# Altium footprint library SparkFun-Connectors.PCBLIB: 305 footprints (part 19 of 20)
Each footprint in its own frame and in the unit in brackets; x right, y up, seen from the top. Pads: shape width x height; smd on the part's side, far side on the other; paste and mask are expansions set on the pad; w line width, h text height; cw(c..) or ccw(c..) is an arc to the next point about the centre after c.
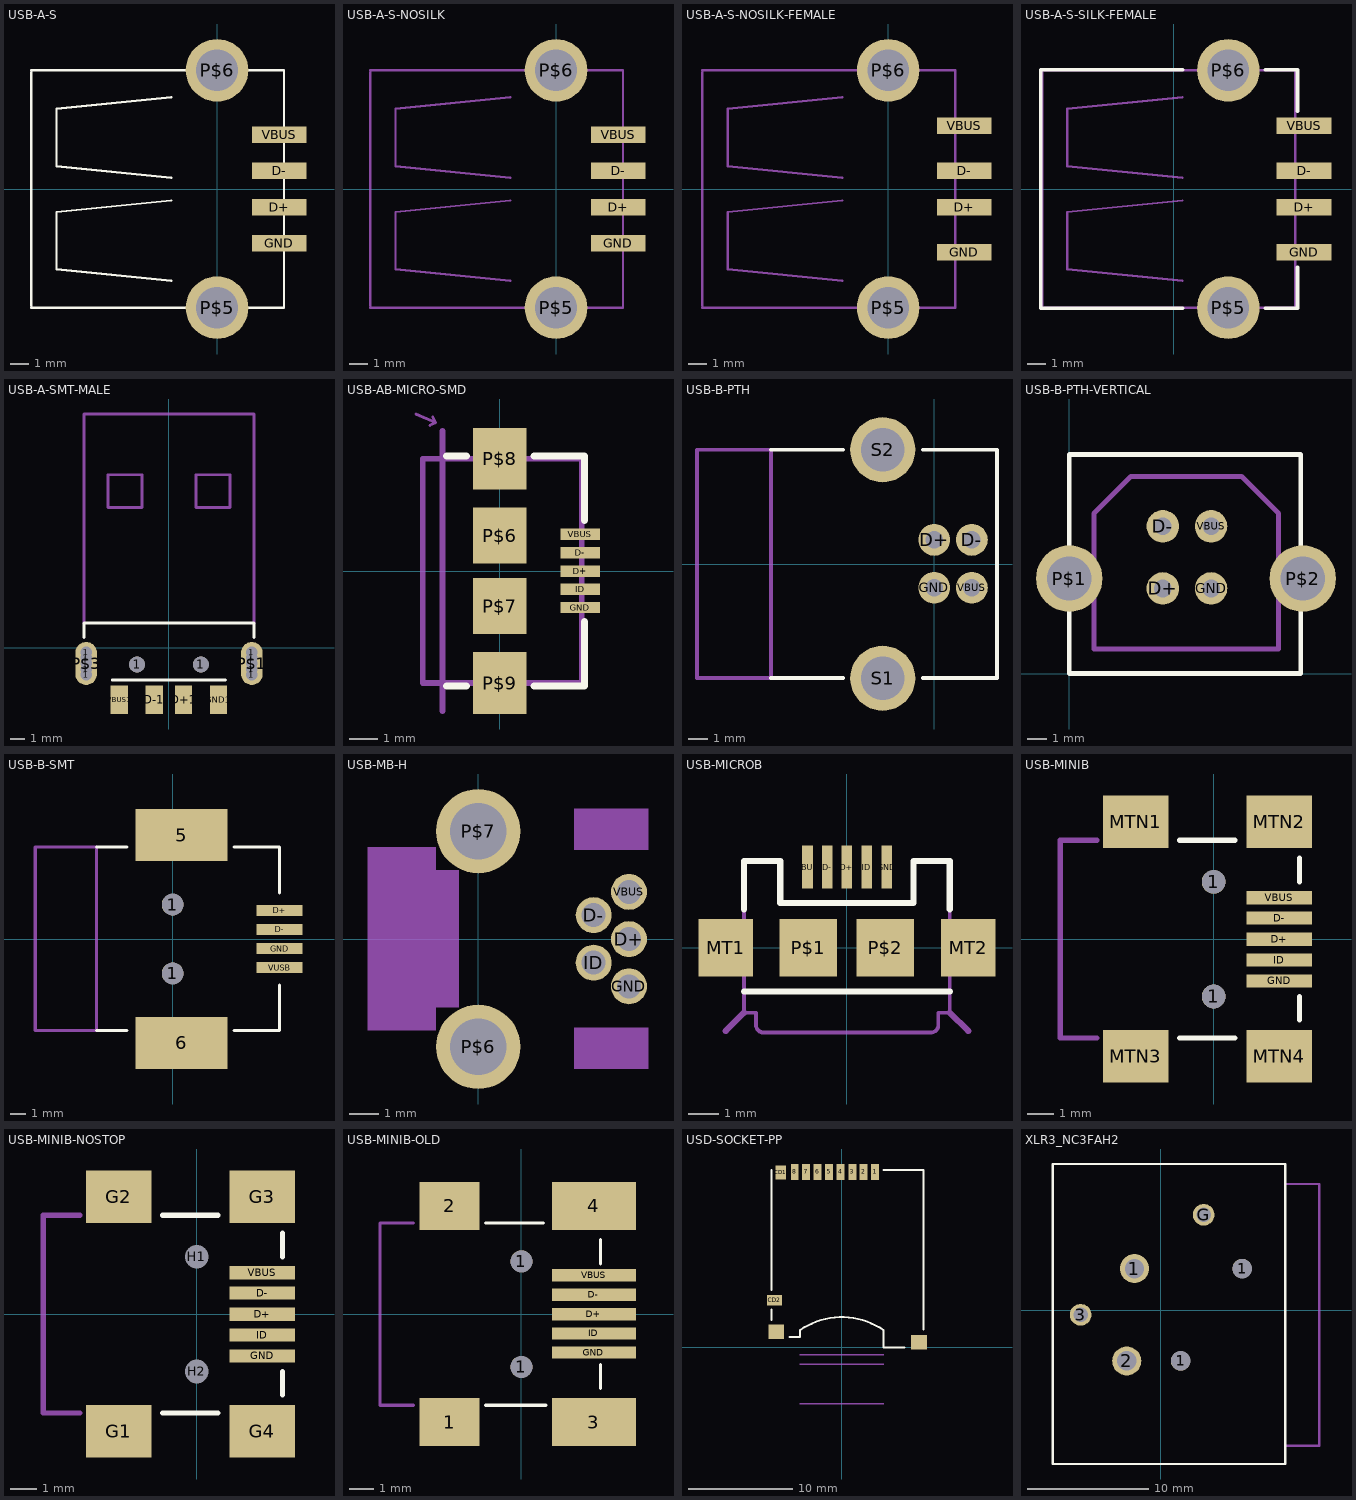
[diagram p18: the footprints below, top view; thin cyan lines are the x and y axes]

## USB-A-S [mil]
pads (6):
  rect 119x36 smd: D+(136,-39.37) D-(136,40) GND(136,-118.11) VBUS(136,119)
  round 136.5 hole 91: P$5(0,-258.5) P$6(0,259)
Top Overlay:
  lines w5: -405,-258.5 146,-258.5 ; -405,-255 -405,255 ; -405,259 146,259 ; -100,-200 -350,-175 -350,-50 -100,-25 ; -100,25 -350,50 -350,175 -100,200 ; 146,-256 146,256

## USB-A-S-NOSILK [mil]
pads (6):
  rect 119x36 smd: D+(136,-39.37) D-(136,40) GND(136,-118.11) VBUS(136,119)
  round 136.5 hole 91: P$5(0,-258.5) P$6(0,259)
Mechanical 16:
  lines w5: -405,-258.5 146,-258.5 ; -405,-255 -405,255 ; -405,259 146,259 ; -100,-200 -350,-175 -350,-50 -100,-25 ; -100,25 -350,50 -350,175 -100,200 ; 146,-256 146,256

## USB-A-S-NOSILK-FEMALE [mil]
pads (6):
  rect 119x36 smd: D+(166,-39.37) D-(166,40) GND(166,-137.8) VBUS(166,138)
  round 136.5 hole 91: P$5(0,-258.5) P$6(0,259)
Mechanical 16:
  lines w5: -405,-258.5 146,-258.5 ; -405,-255 -405,255 ; -405,259 146,259 ; -100,-200 -350,-175 -350,-50 -100,-25 ; -100,25 -350,50 -350,175 -100,200 ; 146,-256 146,256

## USB-A-S-SILK-FEMALE [mil]
pads (6):
  rect 119x36 smd: D+(284,-39.37) D-(284,40) GND(284,-137.8) VBUS(284,138)
  round 136.5 hole 91: P$5(119,-258.5) P$6(119,259)
Top Overlay:
  lines w8: 20,-260 -290,-260 -290,260 20,260 ; 200,-260 270,-260 270,-170 ; 200,260 270,260 270,170
Mechanical 16:
  lines w5: -286.89,-258.5 264,-258.5 ; -286.89,-255 -286.89,255 ; -286.89,259 264,259 ; 19,-200 -231.89,-175 -231.89,-50 19,-25 ; 19,25 -231.89,50 -231.89,175 19,200 ; 265,-256 265,256

## USB-A-SMT-MALE [mil]
pads (16):
  round 32 hole 32: 1(-230.31,-74.8) 1(-230.31,-59.06) 1(-230.31,-27.56) 1(-230.31,-11.81) 1(231,-74.8) 1(231,-59.06) 1(231,-27.56) 1(231,-11.81)
  round 44 hole 44: 1(-88.58,-46.06) 1(89,-46.06)
  rect 48x79 smd: D+1(41,-144.49) D-1(-40.43,-144.49) GND1(138,-144.49) VBUS1(-137.8,-144.49)
  oval 60x120 hole 32: P$1(231,-43.31) P$3(-230.31,-43.31)
Top Overlay:
  lines w8: -236.22,29 -236.22,69 237,69 237,29 ; -157.48,-89.37 158,-89.37
Mechanical 16:
  lines w8: -236.22,69 -236.22,651 237,651 237,69 ; -169.29,391 -169.29,482 -74.8,482 -74.8,391 -169.29,391 ; 75,391 75,482 170,482 170,391 75,391
  text "PCB Edge" at -173.23,104 h77.5

## USB-AB-MICRO-SMD [mil]
pads (9):
  rect 56x16 smd: D+(113,0) D-(113,26) GND(113,-51.18) ID(113,-25.59) VBUS(113,52)
  rect 75x79 smd: P$6(0,50) P$7(0,-49.21)
  rect 75x87 smd: P$8(0,158) P$9(0,-157.48)
Top Overlay:
  lines w10: -74.8,-161.42 -47.24,-161.42 ; -74.8,162 -47.24,162 ; 48,-161.42 119,-161.42 119,-70.87 ; 48,162 119,162 119,71
Mechanical 16:
  lines w4: -118.11,221 -90.55,209 ; -98.43,205 -90.55,209 ; -94.49,217 -90.55,209
  lines w8: -108.27,-157.48 -108.27,158 ; -106.3,-157.48 115,-157.48 115,158 24,158 ; -106.3,158 -23.62,158 ; -80.71,-196.85 -80.71,197 ; -23.62,-157.48 -23.62,-181.1 24,-181.1 24,-157.48 ; -23.62,158 24,158 ; -23.62,158 -23.62,182 24,182 24,158
  text "PCB Front" at -204.72,217 h18.6

## USB-B-PTH [mil]
pads (6):
  round 66 hole 36: D+(0,50) D-(78,50) GND(0,-49.21) VBUS(78,-49.21)
  round 135 hole 90: S1(-107,-237) S2(-107,237)
Top Overlay:
  lines w8: -338.58,-236.22 -188.98,-236.22 ; -338.58,237 -188.98,237 ; -23.62,-236.22 130,-236.22 130,237 -23.62,237
Mechanical 16:
  lines w8: -492.13,-236.22 -338.58,-236.22 -338.58,237 -492.13,237 -492.13,-236.22

## USB-B-PTH-VERTICAL [mil]
pads (6):
  round 66 hole 36: D+(190,173) D-(190,299) GND(288,173) VBUS(288,299)
  round 135 hole 90: P$1(0,193) P$2(474,193)
Top Overlay:
  lines w10: 0,0 470,0 470,445 0,445 0,0
Mechanical 16:
  lines w10: 50,50 425,50 425,325 350,400 125,400 50,325 50,50

## USB-B-SMT [mil]
pads (8):
  round 56 hole 56: 1(0,-88.58) 1(0,89)
  rect 238x134 smd: 5(23,268) 6(23,-267.72)
  rect 119x28 smd: D+(276,74) D-(276,25) GND(276,-24.61) VUSB(276,-73.82)
Top Overlay:
  lines w8: -196.85,-236.22 -118.11,-236.22 ; -196.85,237 -118.11,237 ; 158,-236.22 276,-236.22 276,-118.11 ; 158,237 276,237 276,119
Mechanical 16:
  lines w8: -354.33,-236.22 -354.33,237 -196.85,237 -196.85,-236.22 -354.33,-236.22 ; -39.37,-287.4 -39.37,-236.22 95,-236.22 95,-287.4 87,-295.28 75,-295.28 56,-275.59 0,-275.59 -19.68,-295.28 -31.5,-295.28 -39.37,-287.4 ; -39.37,237 95,237 95,288 87,296 75,296 56,276 0,276 -19.68,296 -31.5,296 -39.37,288 -39.37,237

## USB-MB-H [mil]
pads (7):
  round 48 hole 32: D+(201,0) D-(154,32) GND(201,-62.99) ID(154,-31.5) VBUS(201,63)
  round 112.5 hole 75: P$6(0,-143.7) P$7(0,144)
Bottom Overlay:
  lines w5: -127.95,-49.21 69,-29.53 69,30 -127.95,50 ; 30,60 -127.95,79 -127.95,119 30,138 ; 50,-137.8 -127.95,-118.11 -127.95,-78.74 50,-59.06 ; -147.64,-153.54 -147.64,154 207,154 207,-153.54 -147.64,-153.54
Mechanical 10:
  rectangle: 128,119 227,174
  rectangle: 128,-173.23 227,-118.11
  rectangle: -147.64,-122.05 -56.1,123
  rectangle: -56.1,-91.54 -25.59,92

## USB-MICROB [mil]
pads (9):
  rect 14x56 smd: D+(0,105) D-(-25.59,105) GND(52,105) ID(26,105) VBUS(-51.18,105)
  rect 71x75 smd: MT1(-157.48,0) MT2(158,0)
  rect 75x75 smd: P$1(-50,0) P$2(50,0)
Top Overlay:
  lines w8: -133.86,-57.09 134,-57.09 ; -133.86,50 -133.86,113 -86.61,113 -86.61,58 87,58 87,113 134,113 134,50
Mechanical 16:
  lines w5: -133.86,-57.09 -133.86,-84.65 -118.11,-84.65 -118.11,-100.39 ccw(c-108.76,-100.98) -110.24,-110.24 109,-110.24 ccw(c109.67,-100.8) 119,-102.36 119,-84.65 134,-84.65 134,-57.09 ; -133.86,-57.09 -133.86,113 -86.61,113 -86.61,58 87,58 87,113 134,113 134,-57.09 ; -133.86,-57.09 134,-57.09
  lines w8: -157.48,-108.27 -133.86,-84.65 ; 134,-84.65 158,-108.27

## USB-MINIB [mil]
pads (11):
  round 36 hole 36: 1(0,-86.61) 1(0,87)
  rect 99x20 smd: D+(99,0) D-(99,32) GND(99,-62.99) ID(99,-31.5) VBUS(99,63)
  rect 99x79 smd: MTN1(-118.11,178) MTN2(99,178) MTN3(-118.11,-177.17) MTN4(99,-177.17)
Top Overlay:
  lines w8: -51.18,-149.61 32,-149.61 ; -51.18,150 32,150 ; 130,-122.05 130,-86.61 ; 130,87 130,123
Mechanical 16:
  lines w8: -177.17,-149.61 -232.28,-149.61 -232.28,150 -177.17,150

## USB-MINIB-NOSTOP [mil]
pads (11):
  rect 99x20 smd: D+(99,0) D-(99,32) GND(99,-62.99) ID(99,-31.5) VBUS(99,63)
  rect 99x79 smd: G1(-118.11,-177.17) G2(-118.11,178) G3(99,178) G4(99,-177.17)
  round 32 hole 36: H1(0,87)
  round 31 hole 36: H2(0,-86.61)
Top Overlay:
  lines w8: -51.18,-149.61 32,-149.61 ; -51.18,150 32,150 ; 130,-122.05 130,-86.61 ; 130,87 130,123
Top Solder:
  circle w17: c0,87 r14
  circle w17: c0,-86.61 r14
Mechanical 16:
  lines w8: -177.17,-149.61 -232.28,-149.61 -232.28,150 -177.17,150

## USB-MINIB-OLD [mil]
pads (11):
  rect 99x79 smd: 1(-118.11,-177.17) 2(-118.11,178)
  round 36 hole 36: 1(0,-86.61) 1(0,87)
  rect 138x79 smd: 3(119,-177.17) 4(119,178)
  rect 138x20 smd: D+(119,0) D-(119,32) GND(119,-62.99) ID(119,-31.5) VBUS(119,64)
Top Overlay:
  lines w5: -59.06,-149.61 40,-149.61 ; -59.06,150 36,150 ; 130,-122.05 130,-82.68 ; 130,83 130,123
Mechanical 16:
  lines w5: -177.17,-149.61 -232.28,-149.61 -232.28,150 -177.17,150

## USD-SOCKET-PP [mil]
pads (12):
  rect 30x60 smd: 1(126,662) 2(83,662) 3(40,662) 4(-3.94,662) 5(-47.24,662) 6(-90.55,662) 7(-133.86,662) 8(-177.17,662)
  rect 40x52 smd: CD1(-230.31,660)
  rect 56x40 smd: CD2(-252.95,178)
  rect 60x54 smd: GND1(-247.05,59) GND2(291,19)
Top Overlay:
  lines w8: -264.76,103 -264.76,142 ; -264.76,217 -264.76,670 ; -196.85,40 -157.48,40 -157.48,65 cw(c0.26,-162.74) 158,65 158,0 237,0 ; 158,670 309,670 309,67
Mechanical 16:
  lines w5: -157.48,-212.6 158,-212.6 ; -157.48,-62.99 158,-62.99 ; -157.48,-27.56 158,-27.56

## XLR3_NC3FAH2 [mil]
pads (6):
  round 94.5 hole 63: 1(-85,135) 2(-110,-165)
  round 63 hole 63: 1(65,-165) 1(265,135)
  round 70.5 hole 47: 3(-260,-15) G(140,310)
Top Overlay:
  lines w8: -350,-500 405,-500 405,475 -350,475 -350,-500
Mechanical 16:
  lines w8: 410,-440 515,-440 515,-40 515,410 410,410